# EAGLE library part MCP3421 (library IdleHandsProject)
18-Bit Analog-to-Digital Converter with I2 C Interface and On-Board Reference http://ww1.microchip.com/downloads/en/DeviceDoc/22003e.pdf http://www.digikey.ca/product-detail/en/MCP3421A0T-E%2FCH/MCP3421A0T-E%2FCHCT-ND/2183406
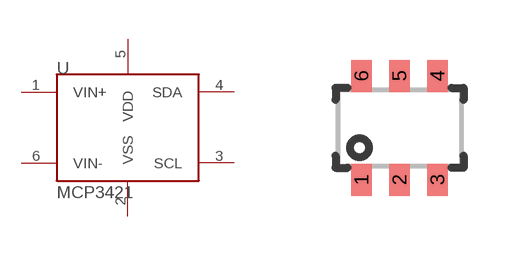
[diagram p0: symbol with the pads of SOT-23-6; footprint SOT-23-6]

Designator prefix U

## MCP3421  [SOT-23-6]
1  VIN+
2  VSS
3  SCL
4  SDA
5  VDD
6  VIN-

## Footprint SOT-23-6 (pad centres in mm)
smd 0.51 x 0.8: 1 -0.95,-1.3; 2 0,-1.3; 3 0.95,-1.3; 4 0.95,1.3; 5 0,1.3; 6 -0.95,1.3